# Altium footprint library WS-ENTV.PcbLib: 4 footprints
Each footprint in its own frame and in the unit in brackets; x right, y up, seen from the top. Pads: shape width x height; smd on the part's side, far side on the other; paste and mask are expansions set on the pad; w line width, h text height; cw(c..) or ccw(c..) is an arc to the next point about the centre after c.
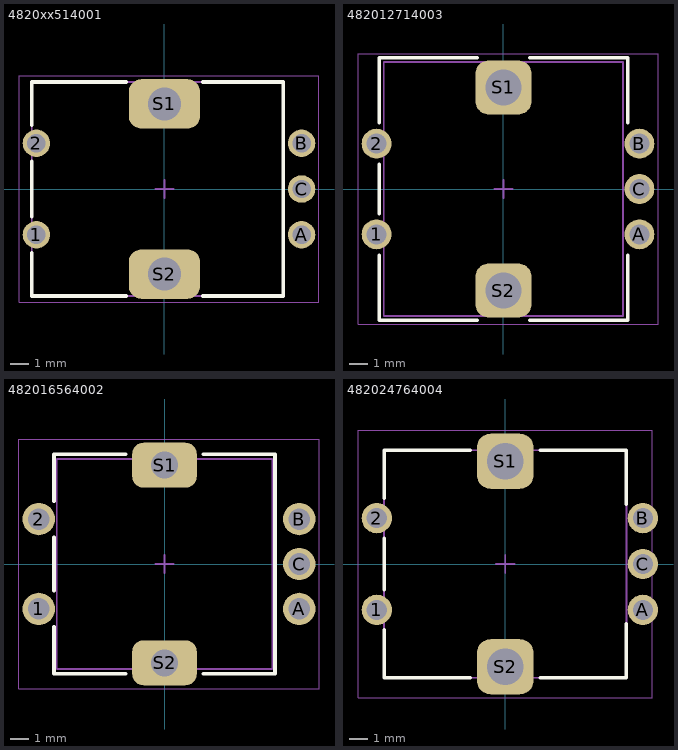
[diagram p0: the footprints below, top view; thin cyan lines are the x and y axes]

## 4820xx514001 [mm] "20 pulse with 20 Detent, half  cut shaft with Bushing, THT vertical  Encoder, with switch Function"
height 26.9
pads (7):
  round 1.5 hole 1: 1(-7,-2.5) 2(-7,2.5) A(7.5,-2.5) B(7.5,2.5) C(7.5,0)
  rrect50% 3.9x2.7 hole 1.8 square: S1(0,4.65) S2(0,-4.65)
Top Overlay:
  lines w0.2: -7.25,-3.5 -7.25,-5.85 -2.1,-5.85 ; -7.25,-1.5 -7.25,1.5 ; -7.25,3.5 -7.25,5.85 -2.1,5.85 ; 2.1,-5.85 6.5,-5.85 6.5,5.85 2.1,5.85
Top Assembly:
  lines w0.1: -7.25,-5.85 6.5,-5.85 6.5,5.85 -7.25,5.85 -7.25,-5.85
Top Designator:
  text ".Designator" at -3.647,-0.357 h1
Top 3D Body:
  lines w0.1: -7.25,-5.85 -7.25,5.85 6.5,5.85 6.5,-5.85 -7.25,-5.85
Top Courtyard:
  lines w0.05: -7.95,-6.2 -7.95,6.2 8.45,6.2 8.45,-6.2 -7.95,-6.2
Top Component Center:
  lines w0.1: -0.5,0 0.5,0 ; 0,-0.5 0,0.5
3D body "4820xx514001.stp": height 26.65, standoff -3.45, extent -7.3,-5.85 7.6,5.85

## 482012714003 [mm] "Mechanical Incremental Encoder Switch Plastic Shaft with Threaded bushing"
height 20
pads (7):
  round 1.65 hole 1.1: 1(-7,-2.5) 2(-7,2.5) A(7.5,-2.5) B(7.5,2.5) C(7.5,0)
  rrect50% 3.1x3 hole 2 square: S1(0,5.6) S2(0,-5.6)
Top Overlay:
  lines w0.2: -6.85,-3.65 -6.85,-7.25 -1.45,-7.25 ; -6.85,-1.35 -6.85,1.35 ; -6.85,3.65 -6.85,7.25 -1.45,7.25 ; 1.45,-7.25 6.85,-7.25 6.85,-3.65 ; 1.45,7.25 6.85,7.25 6.85,3.65
Top Assembly:
  lines w0.1: -6.6,-7 -6.6,7 6.6,7 6.6,-7 -6.6,-7
Top Designator:
  text ".Designator" at -3.647,-0.357 h1
Top 3D Body:
  lines w0.1: -6.6,-7 6.6,-7 6.6,7 -6.6,7 -6.6,-7
Top Courtyard:
  lines w0.05: -8.025,-7.45 -8.025,7.45 8.525,7.45 8.525,-7.45 -8.025,-7.45
Top Component Center:
  lines w0.1: -0.5,0 0.5,0 ; 0,-0.5 0,0.5
3D body "4820xx714003.stp": height 20.1, standoff -3.4, extent -7.15,-7.003 7.65,7.003

## 482016564002 [mm] "Mechanical Incremental Encoder Switch Metal Shaft with Plain bushing"
height 24.5
pads (7):
  round 1.8 hole 1.2: 1(-7,-2.5) 2(-7,2.5) A(7.5,-2.5) B(7.5,2.5) C(7.5,0)
  rrect50% 3.6x2.5 hole 1.5 square: S1(0,5.5) S2(0,-5.5)
Top Overlay:
  lines w0.2: -6.15,-3.5 -6.15,-6.1 -2.15,-6.1 ; -6.15,-1.5 -6.15,1.5 ; -6.15,3.5 -6.15,6.1 -2.15,6.1 ; 2.15,-6.1 6.15,-6.1 6.15,6.1 2.15,6.1
Top Assembly:
  lines w0.1: -6,-5.85 6,-5.85 6,5.85 -6,5.85 -6,-5.85
Top Designator:
  text ".Designator" at -3.647,-0.357 h1
Top 3D Body:
  lines w0.1: -6,-5.85 6,-5.85 6,5.85 -6,5.85 -6,-5.85
Top Courtyard:
  lines w0.05: -8.1,-6.95 -8.1,6.95 8.6,6.95 8.6,-6.95 -8.1,-6.95
Top Component Center:
  lines w0.1: -0.5,0 0.5,0 ; 0,-0.5 0,0.5
3D body "482016564002.stp": height 24.6, standoff -3.4, extent -7.199,-6.475 7.698,6.476

## 482024764004 [mm] "Mechanical Incremental Encoder Switch Plastic Shaft without bushing"
height 20
pads (7):
  round 1.65 hole 1.1: 1(-7,-2.5) 2(-7,2.5) A(7.5,-2.5) B(7.5,2.5) C(7.5,0)
  rrect50% 3.1x3 hole 2 square: S1(0,5.6) S2(0,-5.6)
Top Overlay:
  lines w0.2: -6.6,-3.6 -6.6,-6.2 -1.9,-6.2 ; -6.6,-1.4 -6.6,1.4 ; -6.6,3.6 -6.6,6.2 -1.9,6.2 ; 1.9,-6.2 6.6,-6.2 6.6,-3.25 ; 1.9,6.2 6.6,6.2 6.6,3.25
Top Assembly:
  lines w0.1: -6.6,-6.2 -6.6,6.2 6.6,6.2 6.6,-6.2 -6.6,-6.2
Top Designator:
  text ".Designator" at -3.647,-0.357 h1
Top 3D Body:
  lines w0.1: -6.6,-6.2 6.6,-6.2 6.6,6.2 -6.6,6.2 -6.6,-6.2
Top Courtyard:
  lines w0.05: -8.025,-7.3 8.025,-7.3 8.025,7.3 -8.025,7.3 -8.025,-7.3
Top Component Center:
  lines w0.1: -0.5,0 0.5,0 ; 0,-0.5 0,0.5
3D body "482024764004.stp": height 20.1, standoff -3.4, extent -7.32,-6.811 7.799,6.811